# Altium footprint library Miscellaneous Connectors.PcbLib: 44 footprints (part 3 of 3)
Each footprint in its own frame and in the unit in brackets; x right, y up, seen from the top. Pads: shape width x height; smd on the part's side, far side on the other; paste and mask are expansions set on the pad; w line width, h text height; cw(c..) or ccw(c..) is an arc to the next point about the centre after c.
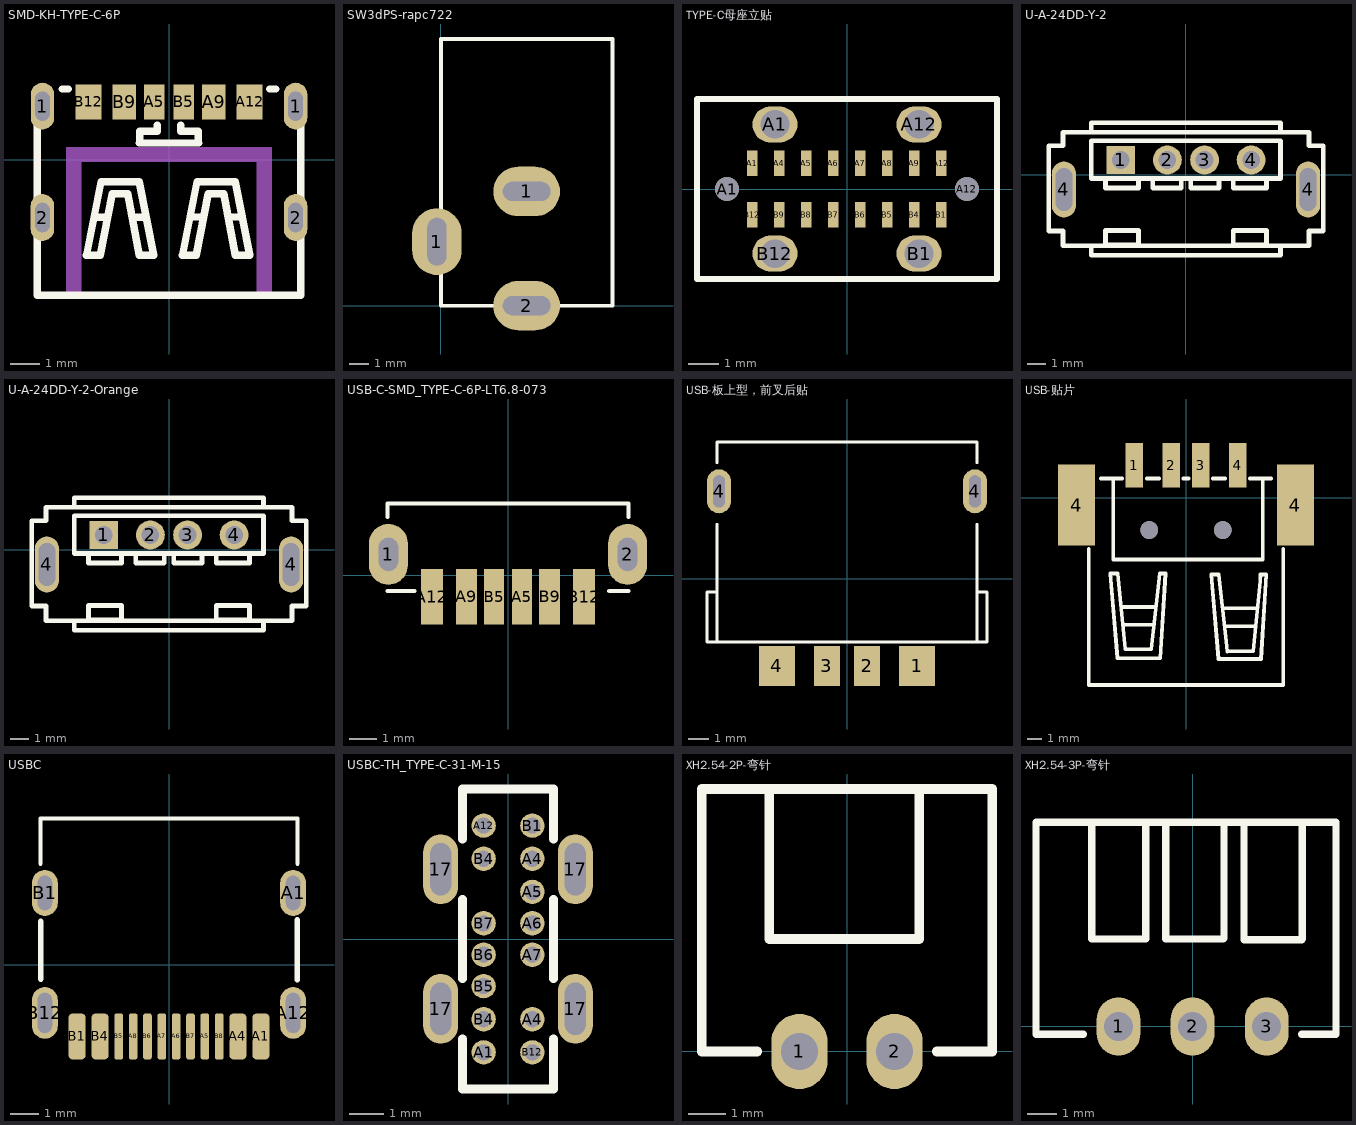
[diagram p2: the footprints below, top view; thin cyan lines are the x and y axes]

## SMD-KH-TYPE-C-6P [mm]
pads (10):
  oval 0.8x1.6 hole 0.5 slot 1 at 90 deg: 1(-4.318,1.829) 1(4.32,1.829) 2(-4.32,-1.974) 2(4.32,-1.974)
  rect 0.7x1.2 smd: A5(-0.5,1.974) B5(0.5,1.974)
  rect 0.8x1.2 smd: A9(1.52,1.974) B9(-1.52,1.974)
  rect 0.9x1.2 smd: A12(2.75,1.974) B12(-2.75,1.974)
Top Overlay:
  lines w0.25: -4.5,-4.626 4.5,-4.626 ; -4.5,-4.576 -4.5,2.414 ; -3.651,2.414 -3.429,2.414 ; -1.01,0.574 1.01,0.574 ; -1,0.574 -1,0.974 -0.4,0.974 -0.4,1.174 ; 0.4,1.174 0.4,0.974 1,0.974 1,0.574 ; 3.429,2.414 3.651,2.414 ; 4.5,-4.576 4.5,2.414
  lines w0.254: -2.518,-1.959 -2.119,-1.959 ; -1.219,-1.959 -0.819,-1.959 ; 0.759,-1.954 1.158,-1.954 ; 2.058,-1.954 2.458,-1.954 ; -2.818,-3.259 -2.32,-0.758 -1.019,-0.758 -0.519,-3.259 -1.014,-3.259 -1.413,-1.159 -1.941,-1.159 -2.343,-3.259 -2.818,-3.259 ; 0.459,-3.254 0.957,-0.752 2.257,-0.752 2.758,-3.254 2.263,-3.254 1.864,-1.154 1.335,-1.154 0.934,-3.254 0.459,-3.254
Top Paste:
  region: -3.2,2.574 -2.3,2.574 -2.3,1.374 -3.2,1.374
  region: -1.92,2.574 -1.12,2.574 -1.12,1.374 -1.92,1.374
  region: -0.85,2.574 -0.15,2.574 -0.15,1.374 -0.85,1.374
  region: 0.15,2.574 0.85,2.574 0.85,1.374 0.15,1.374
  region: 1.12,2.574 1.92,2.574 1.92,1.374 1.12,1.374
  region: 2.3,2.574 3.2,2.574 3.2,1.374 2.3,1.374
Mechanical 15:
  region: -3.5,-4.576 -3.5,0.424 3.5,0.424 3.5,-4.576 3,-4.576 3,-0.076 -3,-0.076 -3,-4.576
3D body "KH-TYPE-C-6P.STEP": height 3.26, standoff -0.9, extent -4.47,-4.576 4.47,2.224

## SW3dPS-rapc722 [mm]
pads (3):
  oval 2.6x3.5 hole 1 slot 2.5 at 90 deg unplated: 1(-0.21,3.36)
  oval 3.5x2.6 hole 1 slot 2.5 at 0 deg unplated: 1(4.5,6) 2(4.5,0)
Top Overlay:
  lines w0.2: 0,0 9,0 9,14 0,14 0,0
3D body "SW3dPS-rapc722.STEP": height 10.92, standoff -3.56, extent -0.46,-0.552 9.065,14.052

## TYPE-C母座立贴 [mm]
pads (22):
  round 0.8 hole 0.8: A1(-4,0) A12(4,0)
  rect 0.35x0.85 smd: A1(-3.15,0.85) A4(-2.25,0.85) A5(-1.35,0.85) A6(-0.45,0.85) A7(0.45,0.85) A8(1.35,0.85) A9(2.25,0.85) A12(3.15,0.85) B1(3.15,-0.85) B4(2.25,-0.85) B5(1.35,-0.85) B6(0.45,-0.85) B7(-0.45,-0.85) B8(-1.35,-0.85) B9(-2.25,-0.85) B12(-3.15,-0.85)
  oval 1.5x1.2 hole 0.95: A1(-2.4,2.15) A12(2.4,2.15) B1(2.4,-2.15) B12(-2.4,-2.15)
Top Overlay:
  lines w0.2: -5,-3 -5,3 5,3 5,-3 -5,-3

## U-A-24DD-Y-2 [mm]
pads (6):
  rect 1.55x1.524 hole 0.95: 1(-3.503,0.792)
  round 1.55 hole 0.95: 2(-1.003,0.792) 3(0.997,0.792) 4(3.497,0.792)
  oval 1.3x3 hole 0.9 slot 2.3 at 90 deg: 4(-6.55,-0.792) 4(6.55,-0.792)
Top Overlay:
  lines w0.254: -6.607,-3.03 -6.607,-3.814 6.601,-3.814 6.601,-3.03 ; -6.607,-3.018 -7.369,-3.018 -7.369,1.554 -6.607,1.554 ; -6.607,1.575 -6.607,2.282 6.601,2.282 6.601,1.575 ; -5.083,-3.814 -5.083,-3.814 -5.083,-4.322 5.077,-4.322 5.077,-3.814 ; -5.083,2.282 -5.083,2.79 5.077,2.79 5.077,2.282 5.077,2.282 ; 6.601,-3.018 7.363,-3.018 7.363,1.554 6.601,1.554 ; -5.083,-0.204 5.077,-0.204 5.077,1.828 -5.083,1.828 -5.083,-0.204 ; -4.321,-3.76 -2.543,-3.76 -2.543,-2.998 -4.321,-2.998 -4.321,-3.76 ; -4.321,-0.712 -2.543,-0.712 -2.543,-0.204 -4.321,-0.204 -4.321,-0.712 ; -1.781,-0.712 -0.257,-0.712 -0.257,-0.204 -1.781,-0.204 -1.781,-0.712 ; 0.251,-0.712 1.775,-0.712 1.775,-0.204 0.251,-0.204 0.251,-0.712 ; 2.537,-3.76 4.315,-3.76 4.315,-2.998 2.537,-2.998 2.537,-3.76 ; 2.537,-0.712 4.315,-0.712 4.315,-0.204 2.537,-0.204 2.537,-0.712
3D body "USB装配体.STEP": height 10, standoff -2.8, extent -6.575,-4.411 6.575,2.889

## U-A-24DD-Y-2-Orange [mm]
pads (6):
  rect 1.55x1.524 hole 0.95: 1(-3.503,0.792)
  round 1.55 hole 0.95: 2(-1.003,0.792) 3(0.997,0.792) 4(3.497,0.792)
  oval 1.3x3 hole 0.9 slot 2.3 at 90 deg: 4(-6.55,-0.792) 4(6.55,-0.792)
Top Overlay:
  lines w0.254: -6.607,-3.03 -6.607,-3.814 6.601,-3.814 6.601,-3.03 ; -6.607,-3.018 -7.369,-3.018 -7.369,1.554 -6.607,1.554 ; -6.607,1.575 -6.607,2.282 6.601,2.282 6.601,1.575 ; -5.083,-3.814 -5.083,-3.814 -5.083,-4.322 5.077,-4.322 5.077,-3.814 ; -5.083,2.282 -5.083,2.79 5.077,2.79 5.077,2.282 5.077,2.282 ; 6.601,-3.018 7.363,-3.018 7.363,1.554 6.601,1.554 ; -5.083,-0.204 5.077,-0.204 5.077,1.828 -5.083,1.828 -5.083,-0.204 ; -4.321,-3.76 -2.543,-3.76 -2.543,-2.998 -4.321,-2.998 -4.321,-3.76 ; -4.321,-0.712 -2.543,-0.712 -2.543,-0.204 -4.321,-0.204 -4.321,-0.712 ; -1.781,-0.712 -0.257,-0.712 -0.257,-0.204 -1.781,-0.204 -1.781,-0.712 ; 0.251,-0.712 1.775,-0.712 1.775,-0.204 0.251,-0.204 0.251,-0.712 ; 2.537,-3.76 4.315,-3.76 4.315,-2.998 2.537,-2.998 2.537,-3.76 ; 2.537,-0.712 4.315,-0.712 4.315,-0.204 2.537,-0.204 2.537,-0.712
3D body "USB装配体-橙色.STEP": height 9.99, standoff -2.81, extent -6.6,-4.42 6.55,2.88

## USB-C-SMD_TYPE-C-6P-LT6.8-073 [mm]
pads (8):
  oval 1.4x2.2 hole 0.7 slot 1.2 at 90 deg: 1(-4.32,0.765) 2(4.32,0.765)
  rect 0.72x2 smd: A5(0.5,-0.765) B5(-0.5,-0.765)
  rect 0.76x2 smd: A9(-1.5,-0.765) B9(1.5,-0.765)
  rect 0.8x2 smd: A12(-2.75,-0.765) B12(2.75,-0.765)
Top Overlay:
  lines w0.15: -4.35,-0.565 -3.378,-0.565 ; -4.35,2.113 -4.35,2.595 4.35,2.595 4.35,2.113 ; 3.658,-0.565 4.35,-0.565
3D body "TYPE-C 6P LT6.8.step": height 6.81, standoff -0.9, extent -4.47,-0.794 4.47,2.616

## USB-板上型，前叉后贴 [mm]
pads (6):
  rect 1.8x2 smd: 1(3.5,-4.367) 4(-3.5,-4.367)
  rect 1.3x2 smd: 2(1,-4.367) 3(-1,-4.367)
  oval 1.2x2.2 hole 0.6 slot 1.6 at 90 deg: 4(-6.4,4.367) 4(6.4,4.367)
Top Overlay:
  lines w0.127: -6.5,-3.108 -6.5,2.718 ; -6.5,-0.667 -7,-0.667 -7,-3.167 7,-3.167 7,-0.667 6.5,-0.667 ; -6.5,5.791 -6.5,6.833 6.5,6.833 6.5,5.791 ; 6.5,-3.108 6.5,2.718

## USB-贴片 [mm] "USB2.0"
pads (8):
  rect 1.2x3 smd: 1(-3.5,2.2) 2(-1,2.2) 3(1,2.2) 4(3.5,2.2)
  rect 2.5x5.5 smd: 4(-7.417,-0.508) 4(7.417,-0.508)
  round 1.2 hole 1.2 unplated: ""(-2.5,-2.2) ""(2.5,-2.2)
Top Overlay:
  lines w0.254: -6.6,-3.481 -6.6,-12.7 6.6,-12.7 6.6,-12.695 6.6,-3.481 ; -5.769,1.3 -4.331,1.3 ; -4.922,1.3 -4.937,1.3 -4.937,-2.002 -4.937,-4.203 5.202,-4.203 5.202,-2.002 5.202,1.3 5.073,1.3 ; -4.342,-7.406 -2.082,-7.406 ; -4.202,-8.616 -2.172,-8.616 ; -2.669,1.3 -1.831,1.3 ; -0.169,1.3 0.169,1.3 ; 1.831,1.3 2.669,1.3 ; 2.539,-7.505 4.799,-7.505 ; 2.679,-8.715 4.709,-8.715 ; 4.331,1.3 5.769,1.3 ; -5.128,-5.141 -4.645,-10.881 -1.75,-10.881 -1.394,-5.141 -1.775,-5.141 -2.364,-10.276 -4.114,-10.276 -4.62,-5.141 -5.128,-5.141 ; 1.707,-5.207 2.202,-10.942 5.087,-10.946 5.435,-5.21 5.055,-5.21 5.025,-5.64 4.551,-10.418 2.801,-10.429 2.726,-9.751 2.215,-5.21 1.707,-5.207
Mechanical 15:
  circle w0.5: c2.5,-2.2 r0.25
  circle w0.5: c-2.5,-2.2 r0.25
3D body "USB2.0-贴片.STEP": height 7.05, standoff -0.6, extent -8.1,-11.317 8.1,3.484

## USBC [mm]
pads (16):
  rrect50% 0.6x1.6 smd: A1(3.2,-2.5) A4(2.4,-2.5) B1(-3.2,-2.5) B4(-2.4,-2.5)
  oval 0.9x1.6 hole 0.5 slot 1.2 at 90 deg: A1(4.325,2.5) B1(-4.325,2.5)
  rrect50% 0.3x1.6 smd: A5(1.25,-2.5) A6(0.25,-2.5) A7(-0.25,-2.5) A8(-1.25,-2.5) B5(-1.75,-2.5) B6(-0.75,-2.5) B7(0.75,-2.5) B8(1.75,-2.5)
  oval 0.9x1.8 hole 0.5 slot 1.4 at 90 deg unplated: A12(4.325,-1.68)
  oval 0.9x1.8 hole 0.5 slot 1.4 at 90 deg: B12(-4.325,-1.68)
Top Overlay:
  lines w0.15: -4.475,3.515 -4.475,5.09 4.475,5.09 4.475,3.515
  lines w0.2: -4.47,-0.498 -4.47,1.508 ; 4.47,-0.524 4.47,1.559
3D body "User Library-USB Type C Port (SMD Type).STEP": height 3.2, standoff -1, extent -4.47,-2.81 4.47,5.09

## USBC-TH_TYPE-C-31-M-15 [mm]
pads (18):
  oval 1x2 hole 0.6 slot 1.5 at 90 deg: 17(-1.93,-2) 17(-1.93,2) 17(1.93,-2) 17(1.93,2)
  round 0.7 hole 0.45 slot 0.455 at 0 deg: A1(-0.7,-3.25) A4(0.7,-2.3) A4(0.7,2.3) A7(0.7,-0.45) A12(-0.7,3.25) B1(0.7,3.25) B4(-0.7,-2.3) B4(-0.7,2.3) B5(-0.7,-1.35) B6(-0.7,-0.45) B7(-0.7,0.45) B12(0.7,-3.25)
  round 0.7 hole 0.45: A5(0.7,1.35) A6(0.7,0.45)
Top Overlay:
  lines w0.254: -1.3,-2.869 -1.3,-4.3 1.3,-4.3 1.3,-2.869 ; -1.3,-1.131 -1.3,1.131 ; -1.3,2.869 -1.3,4.3 1.3,4.3 1.3,2.869 ; 1.3,-1.131 1.3,1.131
3D body "USBC-TH_TYPE-C-31-M-15.STEP": height 10, standoff -3, extent -2.085,-4.47 2.085,4.471

## XH2.54-2P-弯针 [mm]
pads (2):
  oval 1.5x2 hole 0.991: 1(-1.27,0) 2(1.27,0)
Top Overlay:
  lines w0.254: -2.397,0 -3.87,0 -3.87,7 3.87,7 3.87,0 2.397,0 ; -2.07,7 -2.07,3 1.93,3 1.93,7
3D body "ZH2_54-2P-弯针.STEP": height 6.2, standoff -2.49, extent -3.809,-0.29 3.791,6.99

## XH2.54-3P-弯针 [mm]
pads (3):
  oval 1.5x2 hole 0.991: 1(-2.54,0) 2(0,0) 3(2.54,0)
Top Overlay:
  lines w0.254: -3.745,-0.264 -5.37,-0.264 -5.37,7 4.917,7 4.917,-0.214 ; -3.459,7 -3.459,3 -1.611,3 -1.611,7 ; -0.925,7 -0.925,3 1.05,3 1.075,3.025 1.075,6.975 ; 1.761,6.975 1.761,2.975 3.736,2.975 3.761,3 3.761,6.949 ; 3.736,-0.264 4.917,-0.264
3D body "XH2_54-3P-弯针.STEP": height 7.4, standoff -3, extent -5.314,-0.239 4.886,7.041